# Altium footprint library 20455-A20E.PcbLib: 1 footprints
Each footprint in its own frame and in the unit in brackets; x right, y up, seen from the top. Pads: shape width x height; smd on the part's side, far side on the other; paste and mask are expansions set on the pad; w line width, h text height; cw(c..) or ccw(c..) is an arc to the next point about the centre after c.
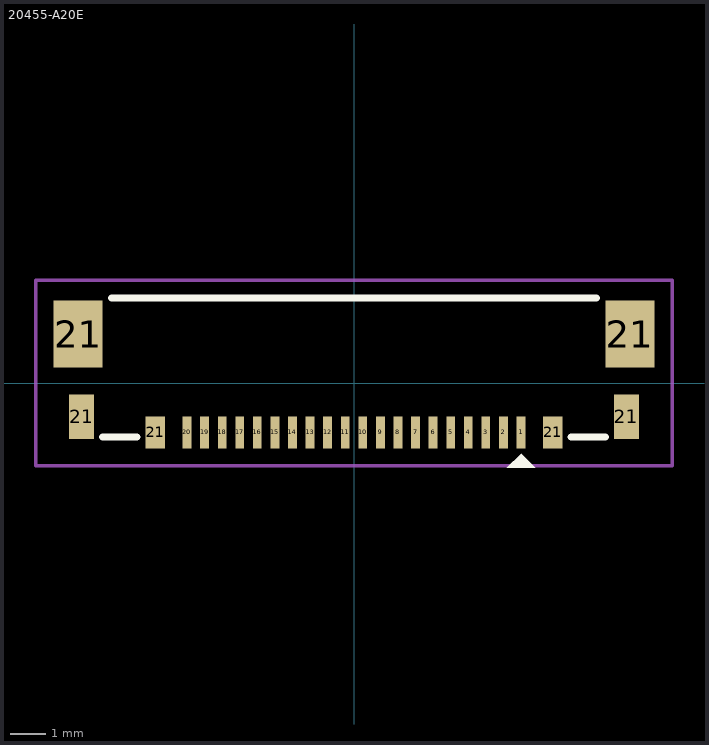
[diagram p0: the footprint, top view; thin cyan lines are the x and y axes]

## 20455-A20E [mm]
pads (26):
  rect 0.25x0.9 smd: 1(4.75,-1.4) 2(4.25,-1.4) 3(3.75,-1.4) 4(3.25,-1.4) 5(2.75,-1.4) 6(2.25,-1.4) 7(1.75,-1.4) 8(1.25,-1.4) 9(0.75,-1.4) 10(0.25,-1.4) 11(-0.25,-1.4) 12(-0.75,-1.4) 13(-1.25,-1.4) 14(-1.75,-1.4) 15(-2.25,-1.4) 16(-2.75,-1.4) 17(-3.25,-1.4) 18(-3.75,-1.4) 19(-4.25,-1.4) 20(-4.75,-1.4)
  rect 1.4x1.9 smd: 21(-7.85,1.4) 21(7.85,1.4)
  rect 0.7x1.27 smd: 21(-7.75,-0.95) 21(7.75,-0.95)
  rect 0.55x0.9 smd: 21(-5.65,-1.4) 21(5.65,-1.4)
Top Overlay:
  region: 5.15,-2.4 4.35,-2.4 4.75,-2
  lines w0.2: -7.15,-1.525 -6.175,-1.525 ; -6.9,2.425 6.9,2.425 ; 6.175,-1.525 7.15,-1.525
Top Courtyard:
  lines w0.1: -9.05,-2.35 -9.05,2.925 9.05,2.925 9.05,-2.35 -9.05,-2.35
3D body "20455-A20E-76--3DModel-STEP-231308.STEP": height 0.98, standoff -0.02, extent -8.125,-1.525 8.125,2.425